# Altium schematic symbol library NXP LPC134X 33 PIN.SchLib: 1 symbol
Pins are listed as number, name and electrical type; pins without a type are passive.

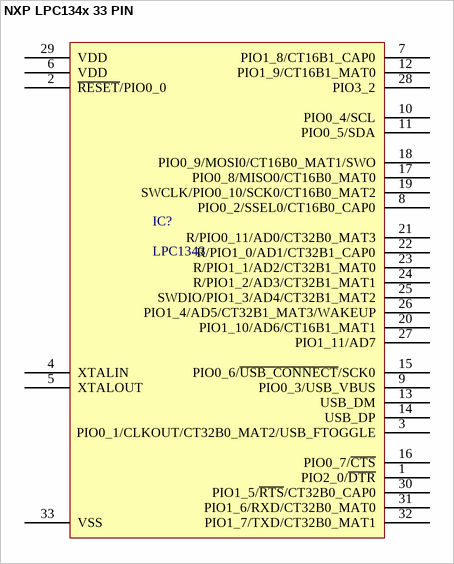
[diagram p0: symbol NXP LPC134x 33 PIN]

## NXP LPC134x 33 PIN
designator IC?, comment LPC1343
32-bit ARM Cortex-M3 microcontroller; up to 32kB flash and 8kB SRAM; USB device
pins: 1 PIO2_0/~{DTR}, 2 ~{RESET}/PIO0_0, 3 PIO0_1/CLKOUT/CT32B0_MAT2/USB_FTOGGLE, 4 XTALIN, 5 XTALOUT, 6 VDD, 7 PIO1_8/CT16B1_CAP0, 8 PIO0_2/SSEL0/CT16B0_CAP0, 9 PIO0_3/USB_VBUS, 10 PIO0_4/SCL, 11 PIO0_5/SDA, 12 PIO1_9/CT16B1_MAT0, 13 USB_DM, 14 USB_DP, 15 PIO0_6/~{USB_CONNECT}/SCK0, 16 PIO0_7/~{CTS}, 17 PIO0_8/MISO0/CT16B0_MAT0, 18 PIO0_9/MOSI0/CT16B0_MAT1/SWO, 19 SWCLK/PIO0_10/SCK0/CT16B0_MAT2, 20 PIO1_10/AD6/CT16B1_MAT1, 21 R/PIO0_11/AD0/CT32B0_MAT3, 22 R/PIO1_0/AD1/CT32B1_CAP0, 23 R/PIO1_1/AD2/CT32B1_MAT0, 24 R/PIO1_2/AD3/CT32B1_MAT1, 25 SWDIO/PIO1_3/AD4/CT32B1_MAT2, 26 PIO1_4/AD5/CT32B1_MAT3/WAKEUP, 27 PIO1_11/AD7, 28 PIO3_2, 29 VDD, 30 PIO1_5/~{RTS}/CT32B0_CAP0, 31 PIO1_6/RXD/CT32B0_MAT0, 32 PIO1_7/TXD/CT32B0_MAT1, 33 VSS